# Altium footprint library TO-92.PcbLib: 2 footprints
Each footprint in its own frame and in the unit in brackets; x right, y up, seen from the top. Pads: shape width x height; smd on the part's side, far side on the other; paste and mask are expansions set on the pad; w line width, h text height; cw(c..) or ccw(c..) is an arc to the next point about the centre after c.
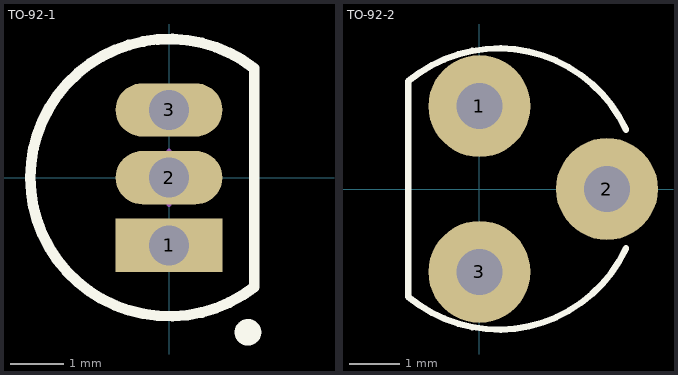
[diagram p0: the footprints below, top view; thin cyan lines are the x and y axes]

## TO-92-1 [mm] "TO, Flat Index; 3 In-Line, Axial Leads; Body Dia. 5mm; Leads 0.55 x 0.50 mm (max)"
height 5.2
pads (3):
  rect 2x1 hole 0.75: 1(0,-1.27)
  oval 2x1 hole 0.75: 2(0,0) 3(0,1.27)
Top Overlay:
  circle w0.25: c1.48,-2.9 r0.125
  lines w0.2: 1.601,-2.049 cw(c0,0) 1.601,2.049 1.6,-2.049
Mechanical 13:
  lines w0.1: 1.601,-2.049 cw(c0,0) 1.601,2.049 1.6,-2.049
Mechanical 15:
  lines w0.1: -0.5,0 0.5,0 ; 0,-0.5 0,0.5
3D body "TO-92-1.step": height 6.47, standoff -6.03, extent -2.494,-2.515 1.376,2.484

## TO-92-2 [mil]
height 397.64
pads (3):
  round 80 hole 36: 1(0,65) 2(100,0) 3(0,-65)
Top Overlay:
  lines w5: 114.91,-46.59 cw(c15,0) -55.86,-84.45 -55.86,84.45 cw(c15,0) 114.91,46.59
3D body "TO-92_A.stp": height 404.72, standoff -100, extent -54.52,-94.57 107.49,94.56